# EAGLE library part TLC555CP (library ducks)
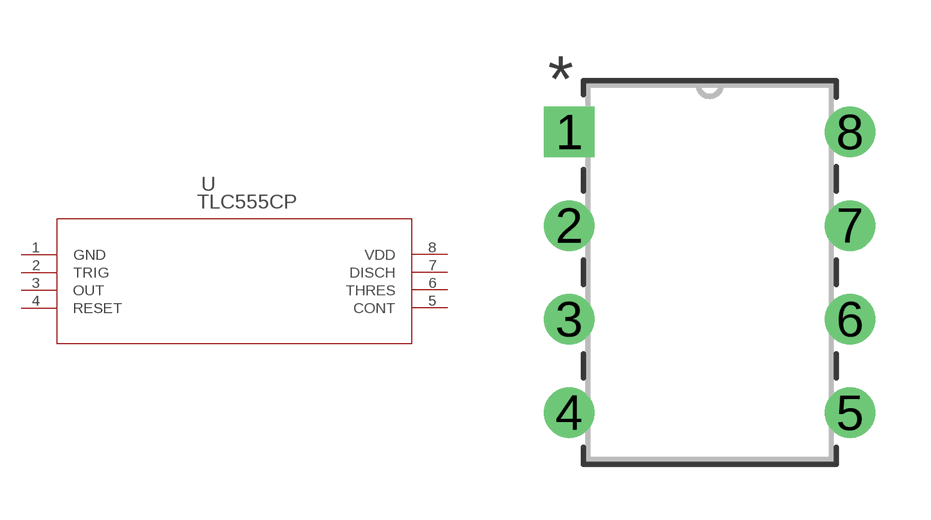
[diagram p1: symbol with the pads of P8; footprint P8]

Designator prefix U

## TLC555CP (MANUFACTURER_PART_NUMBER: TLC555CP; VENDOR: Texas Instruments)  [P8]
1  GND  pwr
2  TRIG  in
3  OUT  out
4  RESET  in
5  CONT  in
6  THRES  in
7  DISCH  out
8  VDD  pwr

## Footprint P8 (pad centres in mm)
drill 0.864 pad 1.372 square: 1 -7.62,7.62
drill 0.864 pad 1.372: 2 -7.62,5.08; 3 -7.62,2.54; 4 -7.62,0; 5 0,0; 6 0,2.54; 7 0,5.08; 8 0,7.62